# Altium schematic symbol library OptoCoup_Fairchild_FOD817ASD.SchLib: 1 symbol
Pins are listed as number, name and electrical type; pins without a type are passive.

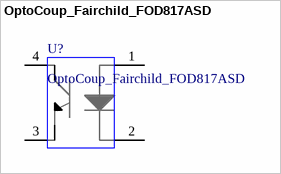
[diagram p0: symbol OptoCoup_Fairchild_FOD817ASD]

## OptoCoup_Fairchild_FOD817ASD
designator U?
pins: 1 Anode, 2 Cathode, 3 Emitter, 4 Collector